# Altium schematic symbol library parts.SchLib: 9 symbols
Pins are listed as number, name and electrical type; pins without a type are passive.

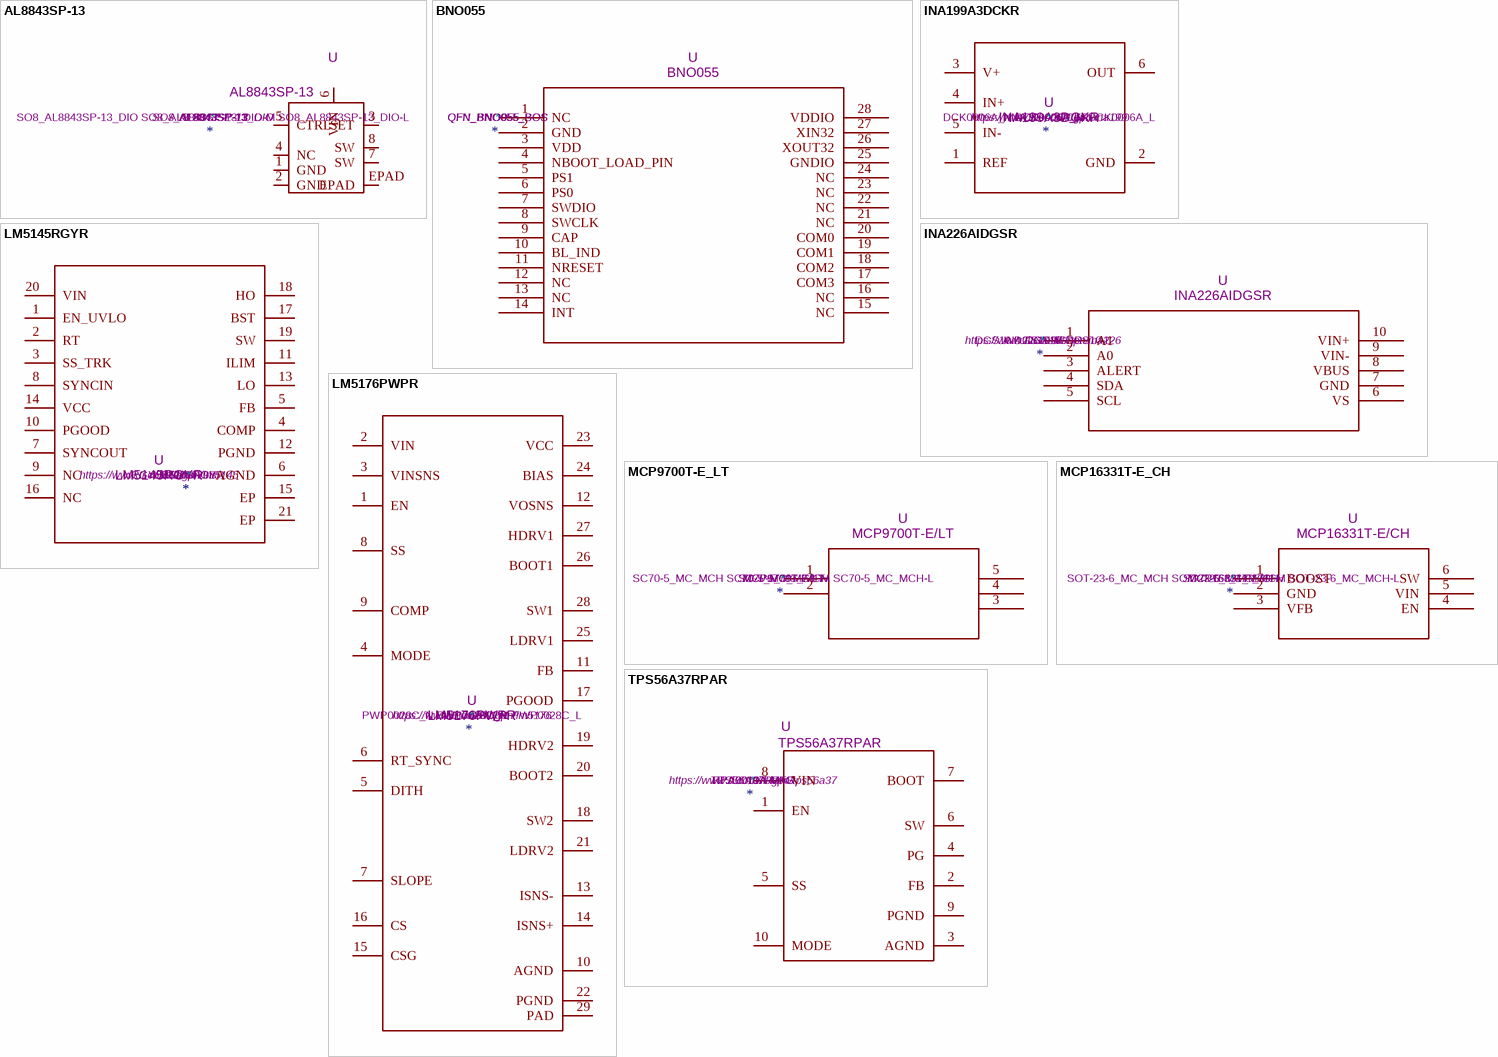
[diagram p0: symbols AL8843SP-13 to TPS56A37RPAR]

## AL8843SP-13
designator *  value AL8843SP-13  Footprint: SO8_AL8843SP-13_DIO  Reference: U  ki_fp_filters: SO8_AL8843SP-13_DIO SO8_AL8843SP-13_DIO-M SO8_AL8843SP-13_DIO-L
Datasheet: AL8843SP-13; ki_keywords: AL8843SP-13
pins: 1 GND, 2 GND, 3 SET, 4 NC, 5 CTRL, 6 VIN, 7 SW, 8 SW, EPAD

## BNO055
designator *  value BNO055  Footprint: QFN_BNO055_BOS  Reference: U
Datasheet: BNO055; ki_keywords: BNO055; ki_fp_filters: QFN_BNO055_BOS
pins: 1 NC, 2 GND, 3 VDD, 4 NBOOT_LOAD_PIN, 5 PS1, 6 PS0, 7 SWDIO, 8 SWCLK, 9 CAP, 10 BL_IND, 11 NRESET, 12 NC, 13 NC, 14 INT, 15 NC, 16 NC, 17 COM3, 18 COM2, 19 COM1, 20 COM0, 21 NC, 22 NC, 23 NC, 24 NC, 25 GNDIO, 26 XOUT32, 27 XIN32, 28 VDDIO

## INA199A3DCKR
designator *  value INA199A3DCKR  Footprint: DCK0006A_N  Reference: U  ki_fp_filters: DCK0006A_N DCK0006A_M DCK0006A_L
Datasheet: https://www.ti.com/lit/gpn/ina199; ki_keywords: INA199A3DCKR
pins: 1 REF, 2 GND, 3 V+, 4 IN+, 5 IN-, 6 OUT

## INA226AIDGSR
designator *  value INA226AIDGSR  Footprint: DGS10  Reference: U  ki_fp_filters: DGS10 DGS10-M DGS10-L
Datasheet: https://www.ti.com/lit/gpn/ina226; ki_keywords: INA226AIDGSR
pins: 1 A1, 2 A0, 3 ALERT, 4 SDA, 5 SCL, 6 VS, 7 GND, 8 VBUS, 9 VIN-, 10 VIN+

## LM5145RGYR
designator *  value LM5145RGYR  Footprint: RGY0020B  Reference: U
Datasheet: https://www.ti.com/lit/gpn/lm5145; ki_keywords: LM5145RGYR; ki_fp_filters: RGY0020B
pins: 1 EN_UVLO, 2 RT, 3 SS_TRK, 4 COMP, 5 FB, 6 AGND, 7 SYNCOUT, 8 SYNCIN, 9 NC, 10 PGOOD, 11 ILIM, 12 PGND, 13 LO, 14 VCC, 15 EP, 16 NC, 17 BST, 18 HO, 19 SW, 20 VIN, 21 EP

## LM5176PWPR
designator *  value LM5176PWPR  Footprint: PWP0028C_N  Reference: U  ki_fp_filters: PWP0028C_N PWP0028C_M PWP0028C_L
Datasheet: https://www.ti.com/lit/gpn/lm5176; ki_keywords: LM5176PWPR
pins: 1 EN, 2 VIN, 3 VINSNS, 4 MODE, 5 DITH, 6 RT_SYNC, 7 SLOPE, 8 SS, 9 COMP, 10 AGND, 11 FB, 12 VOSNS, 13 ISNS-, 14 ISNS+, 15 CSG, 16 CS, 17 PGOOD, 18 SW2, 19 HDRV2, 20 BOOT2, 21 LDRV2, 22 PGND, 23 VCC, 24 BIAS, 25 LDRV1, 26 BOOT1, 27 HDRV1, 28 SW1, 29 PAD

## MCP9700T-E_LT
designator *  value MCP9700T-E/LT  Footprint: SC70-5_MC_MCH  Reference: U  ki_fp_filters: SC70-5_MC_MCH SC70-5_MC_MCH-M SC70-5_MC_MCH-L
Datasheet: MCP9700T-E/LT; ki_keywords: MCP9700T-E/LT
pins: 1, 2, 3, 4, 5

## MCP16331T-E_CH
designator *  value MCP16331T-E/CH  Footprint: SOT-23-6_MC_MCH  Reference: U  ki_fp_filters: SOT-23-6_MC_MCH SOT-23-6_MC_MCH-M SOT-23-6_MC_MCH-L
Datasheet: MCP16331T-E/CH; ki_keywords: MCP16331T-E/CH
pins: 1 BOOST, 2 GND, 3 VFB, 4 EN, 5 VIN, 6 SW

## TPS56A37RPAR
designator *  value TPS56A37RPAR  Footprint: RPA0010A-MFG  Reference: U
Datasheet: https://www.ti.com/lit/gpn/tps56a37; ki_keywords: TPS56A37RPAR; ki_fp_filters: RPA0010A-MFG
pins: 1 EN, 2 FB, 3 AGND, 4 PG, 5 SS, 6 SW, 7 BOOT, 8 VIN, 9 PGND, 10 MODE